# EAGLE library part LT4356-*DE (library LT4356_rev10)
Power Supply Protection IC made by Linear Technology at www.linear.com Device Model created 2011-06-23 by Mario Blunk - electronics & IT engineering at www.train-z.de
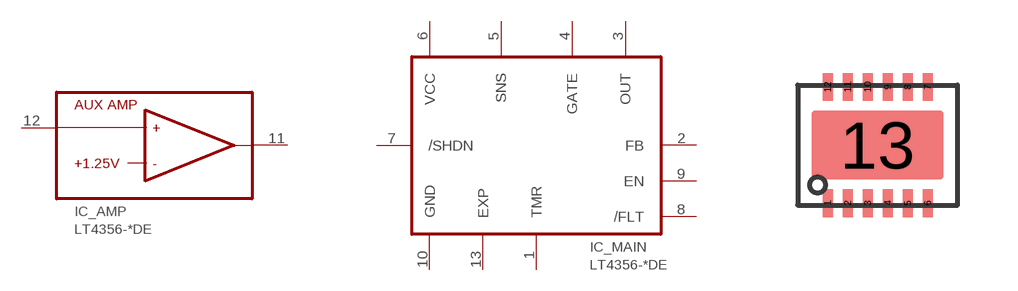
[diagram p0: symbol with the pads of DFN-12; footprint DFN-12]

Designator prefix IC; gates _AMP=LT4356_AMP _MAIN=LT4356_MAIN+EXP

## LT4356-1DE (FINISH: LEAD FREE; INTERNAL_CODE: NCC-1701D; TAPE_REEL: YES; TEMP_RANGE: MIL), LT4356-2DE (FINISH: LEAD FREE; INTERNAL_CODE: NCC-1701E; TAPE_REEL: YES; TEMP_RANGE: MIL)  [DFN-12]
1  _MAIN:TMR  in
2  _MAIN:FB  in
3  _MAIN:OUT  in
4  _MAIN:GATE  out
5  _MAIN:SNS  in
6  _MAIN:VCC  pwr
7  _MAIN:/SHDN  in
8  _MAIN:/FLT  oc
9  _MAIN:EN  oc
10  _MAIN:GND  pwr
11  _AMP:AOUT  oc
12  _AMP:IN+  in
13  _MAIN:EXP  pas

## Footprint DFN-12 (pad centres in mm)
smd 0.25 x 0.7: 1 -1.25,-1.45; 2 -0.75,-1.45; 3 -0.25,-1.45; 4 0.25,-1.45; 5 0.75,-1.45; 6 1.25,-1.45; 7 1.25,1.45; 8 0.75,1.45; 9 0.25,1.45; 10 -0.25,1.45; 11 -0.75,1.45; 12 -1.25,1.45
smd 3.3 x 1.7: 13 0,0